# Altium footprint library inductors.PcbLib: 86 footprints (part 1 of 6)
Each footprint in its own frame and in the unit in brackets; x right, y up, seen from the top. Pads: shape width x height; smd on the part's side, far side on the other; paste and mask are expansions set on the pad; w line width, h text height; cw(c..) or ccw(c..) is an arc to the next point about the centre after c.
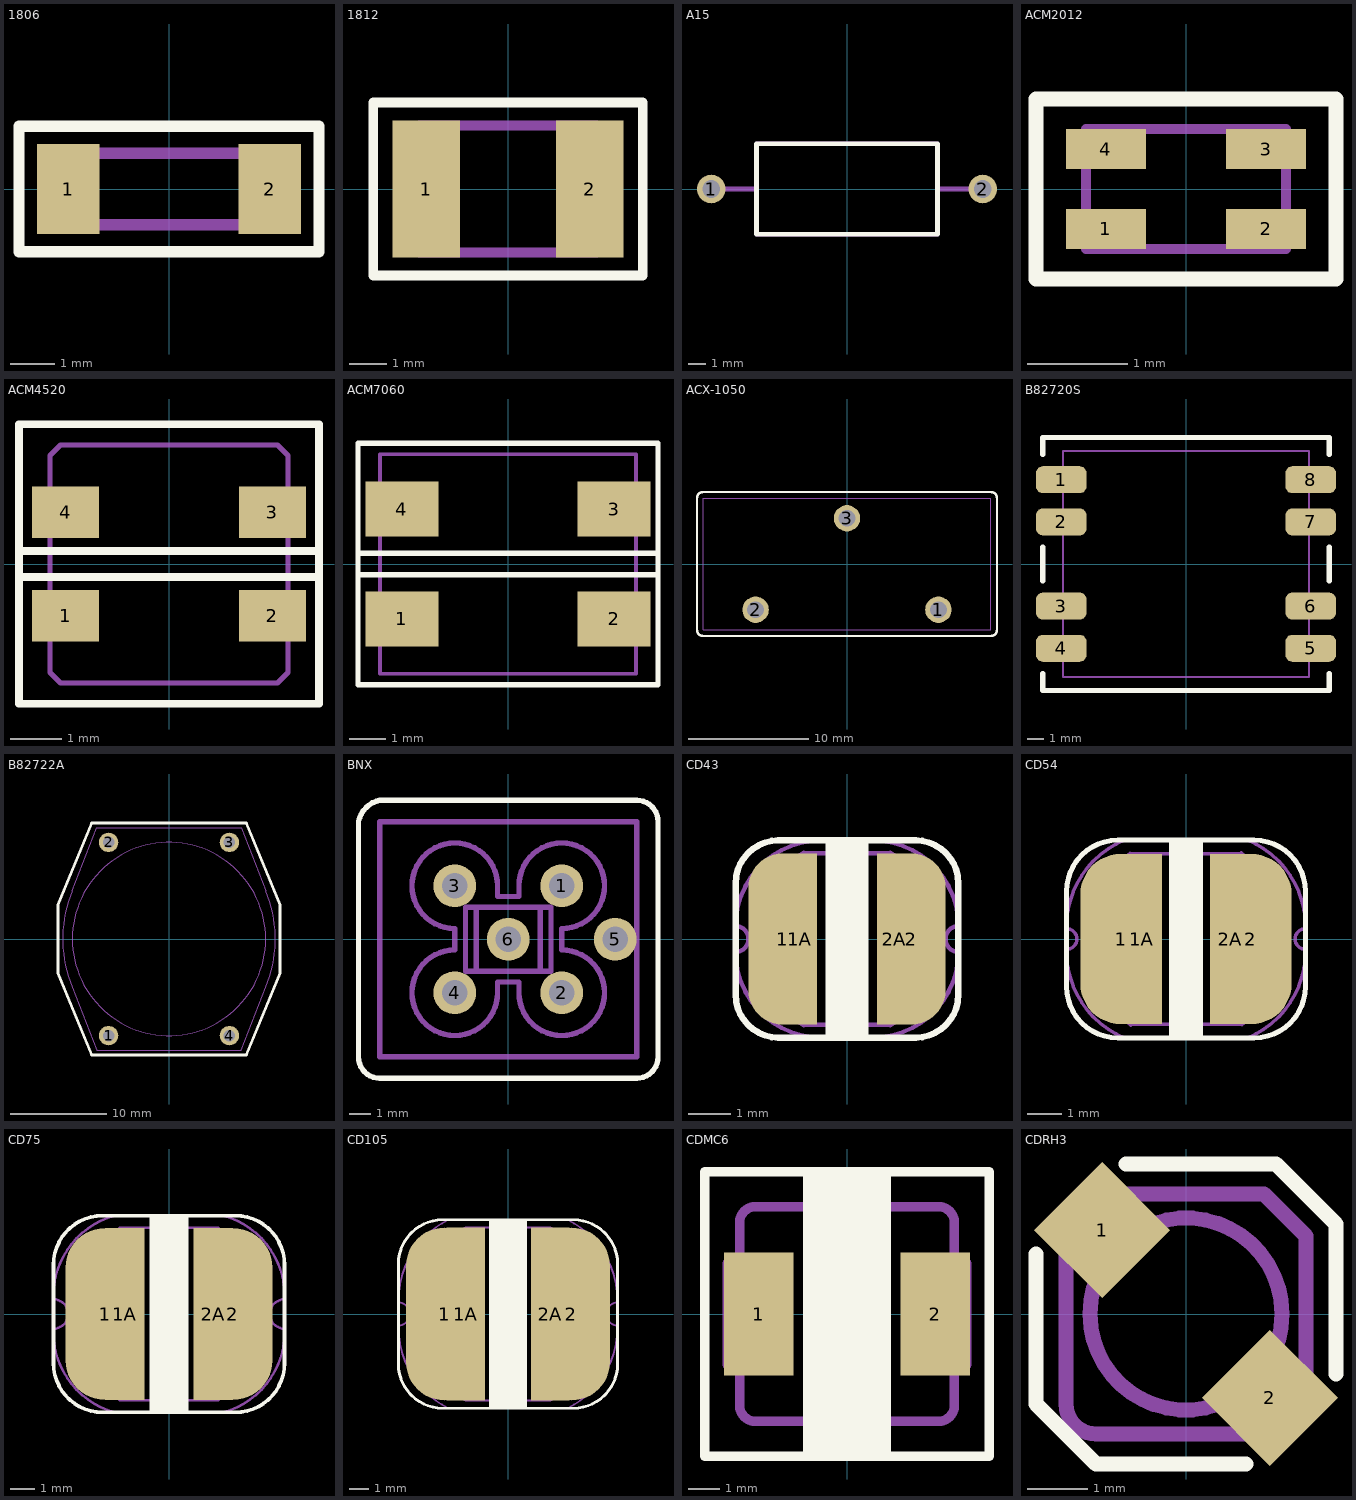
[diagram p0: the footprints below, top view; thin cyan lines are the x and y axes]

## 1806 [mm]
pads (2):
  rect 1.4x2 smd: 1(-2.25,0) 2(2.25,0)
Top Overlay:
  lines w0.25: -3.35,-1.4 -3.35,1.4 3.35,1.4 3.35,0.5 3.35,-1.4 2.45,-1.4 -3.35,-1.4
Mechanical 1:
  lines w0.25: -1.75,-0.8 -1.75,0.8 ; 1.75,-0.8 1.75,0.8 ; -2.25,-0.8 -2.25,0.8 2.25,0.8 2.25,-0.8 -2.25,-0.8

## 1812 [mil]
pads (2):
  rect 70x142 smd: 1(-85,0) 2(85,0)
Top Overlay:
  lines w10: -140,-90 -140,90 140,90 140,-90 -140,-90
Mechanical 1:
  lines w10: -92,-66 -92,66 92,66 92,-66 -92,-66

## A15 [mm]
pads (2):
  round 1.6 hole 1: 1(-7.62,0) 2(7.62,0)
Top Overlay:
  lines w0.254: -5.08,-2.54 -5.08,2.54 5.08,2.54 5.08,-2.54 -5.08,-2.54
Mechanical 1:
  lines w0.254: -7.62,0 -5.08,0 ; 5.08,0 7.62,0 ; -5.08,-2.54 -5.08,2.54 5.08,2.54 5.08,-2.54 -5.08,-2.54

## ACM2012 [mm]
height 1.2
pads (4):
  rect 0.8x0.4 smd: 1(-0.8,-0.4) 2(0.8,-0.4) 3(0.8,0.4) 4(-0.8,0.4)
Top Overlay:
  lines w0.15: -1.5,-0.9 -1.5,0.9 1.5,0.9 1.5,-0.9 -1.5,-0.9
Mechanical 1:
  lines w0.1: -1,-0.6 1,-0.6 1,0.6 -1,0.6 -1,-0.6
3D body: height 1.2, standoff 0.1, extent -1,-0.6 1,0.6

## ACM4520 [mm]
height 2
pads (4):
  rect 1.3x1 smd: 1(-2,-1) 2(2,-1) 3(2,1) 4(-2,1)
Top Overlay:
  lines w0.15: -2.9,-0.25 2.9,-0.25 ; -2.9,0.25 2.9,0.25 ; -2.9,-2.7 -2.9,2.7 2.9,2.7 2.9,-2.7 -2.9,-2.7
Mechanical 1:
  lines w0.1: -2.3,-2.1 -2.3,2.1 -2.1,2.3 2.1,2.3 2.3,2.1 2.3,-2.1 2.1,-2.3 -2.1,-2.3 -2.3,-2.1
3D body: height 1.9, standoff 0.2, extent -2.304,-2.304 2.304,2.304
3D body: height 2, standoff 0, extent -2.4,0.6 -1.6,1.4
3D body: height 2, standoff 0, extent -2.4,-1.4 -1.6,-0.6
3D body: height 2, standoff 0, extent 1.6,0.6 2.4,1.4
3D body: height 2, standoff 0, extent 1.6,-1.4 2.4,-0.6

## ACM7060 [mm]
height 3.5
pads (4):
  rect 2x1.5 smd: 1(-2.9,-1.5) 2(2.9,-1.5) 3(2.9,1.5) 4(-2.9,1.5)
Top Overlay:
  lines w0.15: -4.1,-0.3 4.1,-0.3 ; -4.1,0.3 4.1,0.3 ; -4.1,-3.3 4.1,-3.3 4.1,3.3 -4.1,3.3 -4.1,-3.3
Mechanical 1:
  lines w0.1: -3.5,-3 -3.5,3 3.5,3 3.5,-3 -3.5,-3
3D body: height 1.6, standoff 0, extent -3.6,0.7 -2.6,2.2
3D body: height 2.55, standoff 0.05, extent -3.5,-3 3.5,3
3D body: height 1.6, standoff 0, extent -3.6,-2.3 -2.6,-0.8
3D body: height 1.6, standoff 0, extent 2.6,0.8 3.6,2.3
3D body: height 1.6, standoff 0, extent 2.6,-2.2 3.6,-0.7
3D body: height 2.21, standoff 0.19, extent -3,-2.509 3,2.509

## ACX-1050 [mm] "Current transformer"
height 24
pads (3):
  round 2.2 hole 1.4: 1(7.62,-3.81) 2(-7.62,-3.81) 3(0,3.81)
Top Overlay:
  lines w0.2: -12.5,-5.5 ccw(c-12,-5.5) -12,-6 12,-6 ccw(c12,-5.5) 12.5,-5.5 12.5,5.5 ccw(c12,5.5) 12,6 -12,6 ccw(c-12,5.5) -12.5,5.5 -12.5,-5.5
Mechanical 1:
  lines w0.1: -12,-5.5 -12,5.5 12,5.5 12,-5.5 -12,-5.5
3D body: height 24, standoff 0, extent -11.993,-5.5 11.993,5.5
3D body: height 12, standoff 0, extent -11.993,-5.5 12,5.5
3D body: height 5, standoff -5, extent 7.12,-4.309 8.116,-3.311
3D body: height 5, standoff -5, extent -0.5,3.311 0.496,4.309
3D body: height 5, standoff -5, extent -8.12,-4.309 -7.124,-3.311

## B82720S [mm]
height 11
pads (8):
  rrect50% 3x1.6 smd: 1(-7.4,5) 2(-7.4,2.5) 3(-7.4,-2.5) 4(-7.4,-5) 5(7.4,-5) 6(7.4,-2.5) 7(7.4,2.5) 8(7.4,5)
Top Overlay:
  lines w0.3: -8.5,-6.5 -8.5,-7.5 8.5,-7.5 8.5,-6.5 ; -8.5,-1 -8.5,1 ; -8.5,6.5 -8.5,7.5 8.5,7.5 8.5,6.5 ; 8.5,-1 8.5,1
Mechanical 1:
  lines w0.1: -7.3,-5.3 -8.3,-5.3 -8.3,-4.7 -7.3,-4.7 ; -7.3,-2.8 -8.3,-2.8 -8.3,-2.2 -7.3,-2.2 ; -7.3,2.2 -8.3,2.2 -8.3,2.8 -7.3,2.8 ; -7.3,4.7 -8.3,4.7 -8.3,5.3 -7.3,5.3 ; 7.3,-5.3 8.3,-5.3 8.3,-4.7 7.3,-4.7 ; 7.3,-2.8 8.3,-2.8 8.3,-2.2 7.3,-2.2 ; 7.3,2.2 8.3,2.2 8.3,2.8 7.3,2.8 ; 7.3,4.7 8.3,4.7 8.3,5.3 7.3,5.3 ; -7.3,-6.7 -7.3,6.7 7.3,6.7 7.3,-6.7 -7.3,-6.7
3D body: height 10.5, standoff 0.7, extent -7.3,-6.7 7.3,6.7
3D body: height 1.1, standoff 0, extent -8.5,-2.75 -6,-2.25
3D body: height 1.1, standoff 0, extent -8.5,4.75 -6,5.25
3D body: height 1.1, standoff 0, extent -8.5,2.25 -6,2.75
3D body: height 1.1, standoff 0, extent -8.5,-5.25 -6,-4.75
3D body: height 1.1, standoff 0, extent 6,4.75 8.5,5.25
3D body: height 1.1, standoff 0, extent 6,2.25 8.5,2.75
3D body: height 1.1, standoff 0, extent 6,-2.75 8.5,-2.25
3D body: height 1.1, standoff 0, extent 6,-5.25 8.5,-4.75

## B82722A [mm]
height 13.3
pads (4):
  round 2 hole 1.2: 1(-6.25,-10) 2(-6.25,10) 3(6.25,10) 4(6.25,-10)
Top Overlay:
  lines w0.3: -11.5,-3.5 -11.5,3.5 -8,12 8,12 11.5,3.5 11.5,-3.5 8,-12 -8,-12 -11.5,-3.5
Mechanical 1:
  circle w0.1: c0,0 r10
  lines w0.1: -10.018,-5.009 cw(c2.26,0) -10.018,5.009 ; -10,-5 -7.5,-11.5 7.5,-11.5 10,-5 ; -10,5 -7.5,11.5 7.5,11.5 10,5 ; 10.018,-5.009 ccw(c-2.26,0) 10.018,5.009
3D body: height 12, standoff 0.1, extent -11.157,-11.5 11.157,11.5

## BNX [mm]
pads (6):
  round 2 hole 1.2: 1(2.5,2.5) 2(2.5,-2.5) 3(-2.5,2.5) 4(-2.5,-2.5) 5(5,0) 6(0,0)
Top Overlay:
  lines w0.25: -7,-5.5 ccw(c-6,-5.5) -6,-6.5 6,-6.5 ccw(c6,-5.5) 7,-5.5 7,5.5 ccw(c6,5.5) 6,6.5 -6,6.5 ccw(c-5.75,5.25) -7,5.5 -7,-5.5
Mechanical 1:
  lines w0.25: -1.5,-1.5 -1.5,1.5 ; 1.5,-1.5 1.5,1.5 ; -6,-5.5 6,-5.5 6,5.5 -6,5.5 -6,-5.5 ; -2.5,-0.5 ccw(c-2.5,-2.5) -0.5,-2.5 -0.5,-2 0.5,-2 0.5,-2.5 ccw(c2.5,-2.5) 2.5,-0.5 2.5,0.5 ccw(c2.5,2.5) 0.5,2.5 0.5,2 -0.5,2 -0.5,2.5 ccw(c-2.5,2.5) -2.5,0.5 -2.5,-0.5 ; -2,-1.5 2,-1.5 2,1.5 -2,1.5 -2,-1.5
3D body: height 8, standoff 0.1, extent -6,-5.5 6,5.5

## CD43 [mm] "Unshielded d4.5mm"
height 3
pads (4):
  oval 1.6x4 smd: 1(-1.5,0) 2(1.5,0)
  rect 0.8x4 smd: 1A(-1.1,0) 2A(1.1,0)
Top Overlay:
  rectangle: -0.5,-2.3 0.5,2.3
  lines w0.15: -2.6,-1.3 ccw(c-1.6,-1.3) -1.6,-2.3 1.6,-2.3 ccw(c1.6,-1.3) 2.6,-1.3 2.6,1.3 ccw(c1.6,1.3) 1.6,2.3 -1.6,2.3 ccw(c-1.6,1.3) -2.6,1.3 -2.6,-1.3
Mechanical 1:
  lines w0.1: -2.236,0.248 cw(c0,0) -1.006,2.012 ; -2.236,0.25 -2,0.25 cw(c-2,0) -2,-0.25 -2.236,-0.25 ccw(c0,0) -1.006,-2.012 ; -1,-2 1,-2 ; -1,2 1,2 ; 1.006,-2.012 ccw(c0,0) 2.236,-0.248 ; 1.006,2.012 cw(c0,0) 2.236,0.25 2,0.25 ccw(c2,0) 2,-0.25 2.236,-0.25
Mechanical 5:
  lines w0.1: -2.6,-0.3 ccw(c-0.6,-0.3) -0.6,-2.3 0.6,-2.3 ccw(c0.6,-0.3) 2.6,-0.3 cw(c2.6,0) 2.6,0.3 ccw(c0.6,0.3) 0.6,2.3 -0.6,2.3 ccw(c-0.6,0.3) -2.6,0.3 cw(c-2.6,0) -2.6,-0.3
  text ".Designator" at -2,-0.8 h1.5
Mechanical 6:
  lines w0.1: -2.6,-0.3 ccw(c-2.6,0) -2.6,0.3 cw(c-0.6,0.3) -0.6,2.3 0.6,2.3 cw(c0.6,0.3) 2.6,0.3 ccw(c2.6,0) 2.6,-0.3 cw(c0.6,-0.3) 0.6,-2.3 -0.6,-2.3 cw(c-0.6,-0.3) -2.6,-0.3
  text ".Comment" at -2,-0.8 h1.5
3D body: height 2.5, standoff 0.5, extent -1.697,-1.699 1.701,1.7
3D body: height 3.2, standoff 2.5, extent -2.25,-2.008 2.251,2.009
3D body: height 0.8, standoff 0.1, extent -2.25,-2.008 2.251,2.008

## CD54 [mm] "Unshielded d5.8mm"
height 4.5
pads (4):
  oval 2.4x5 smd: 1(-1.9,0) 2(1.9,0)
  rect 1.2x5 smd: 1A(-1.3,0) 2A(1.3,0)
Top Overlay:
  rectangle: -0.5,-2.9 0.5,2.9
  lines w0.15: -3.5,-1.4 ccw(c-2,-1.4) -2,-2.9 2,-2.9 ccw(c2,-1.4) 3.5,-1.4 3.5,1.4 ccw(c2,1.4) 2,2.9 -2,2.9 ccw(c-2,1.4) -3.5,1.4 -3.5,-1.4
Mechanical 1:
  lines w0.1: -2.989,-0.255 ccw(c0,0) -1.617,-2.527 ; -2.988,0.265 cw(c0,0) -1.642,2.511 ; -2.936,-0.25 -2.7,-0.25 ccw(c-2.7,0) -2.7,0.25 -2.936,0.25 ; -1.6,-2.5 1.6,-2.5 ; -1.6,2.5 1.6,2.5 ; 1.617,2.527 cw(c0,0) 2.989,0.255 ; 1.642,-2.511 ccw(c0,0) 2.988,-0.265 ; 2.936,-0.25 2.7,-0.25 cw(c2.7,0) 2.7,0.25 2.936,0.25
Mechanical 5:
  lines w0.1: -3.5,-0.3 ccw(c-0.778,-0.376) -1.8,-2.9 1.8,-2.9 ccw(c0.778,-0.376) 3.5,-0.3 cw(c3.5,0) 3.5,0.3 ccw(c0.778,0.376) 1.8,2.9 -1.8,2.9 ccw(c-0.778,0.376) -3.5,0.3 cw(c-3.5,0) -3.5,-0.3
  text ".Designator" at -2,-0.8 h1.5
Mechanical 6:
  lines w0.1: -3.5,-0.3 ccw(c-3.5,0) -3.5,0.3 cw(c-0.778,0.376) -1.8,2.9 1.8,2.9 cw(c0.778,0.376) 3.5,0.3 ccw(c3.5,0) 3.5,-0.3 cw(c0.778,-0.376) 1.8,-2.9 -1.8,-2.9 cw(c-0.778,-0.376) -3.5,-0.3
  text ".Comment" at -2,-0.8 h1.5
3D body: height 4.5, standoff 3.5, extent -3.012,-2.5 3.012,2.5
3D body: height 4.3, standoff 0.3, extent -2.198,-2.199 2.2,2.199
3D body: height 1, standoff 0.1, extent -3.012,-2.5 3.012,2.5

## CD75 [mm] "Unshielded d7.8mm"
height 5
pads (4):
  oval 3.2x7 smd paste-2: 1(-2.6,0) 2(2.6,0)
  rect 1.6x7 smd paste-2: 1A(-1.8,0) 2A(1.8,0)
Top Overlay:
  rectangle: -0.8,-4 0.8,4
  lines w0.15: -4.7,-2 ccw(c-2.7,-2) -2.7,-4 2.7,-4 ccw(c2.7,-2) 4.7,-2 4.7,2 ccw(c2.7,2) 2.7,4 -2.7,4 ccw(c-2.7,2) -4.7,2 -4.7,-2
Top Paste:
  region: 3.75,-1.95 2.9,-2.8 1.8,-2.8 1.45,-2.45 1.45,-0.65 1.8,-0.3 3.4,-0.3 3.75,-0.65
  region: -3.75,-1.95 -2.9,-2.8 -1.8,-2.8 -1.45,-2.45 -1.45,-0.65 -1.8,-0.3 -3.4,-0.3 -3.75,-0.65
  region: 3.75,1.95 2.9,2.8 1.8,2.8 1.45,2.45 1.45,0.65 1.8,0.3 3.4,0.3 3.75,0.65
  region: -3.75,1.95 -2.9,2.8 -1.8,2.8 -1.45,2.45 -1.45,0.65 -1.8,0.3 -3.4,0.3 -3.75,0.65
Mechanical 1:
  lines w0.1: -4,-0.3 ccw(c-0.183,-0.139) -2,-3.5 2,-3.5 ccw(c0.183,-0.139) 4,-0.3 3.6,-0.3 cw(c3.6,0) 3.6,0.3 4,0.3 ccw(c0.183,0.139) 2,3.5 -2,3.5 ccw(c-0.183,0.139) -4,0.3 -3.6,0.3 cw(c-3.6,0) -3.6,-0.3 -4,-0.3
Mechanical 5:
  lines w0.1: -4.7,-0.6 ccw(c-4.7,0) -4.7,0.6 cw(c-1.325,0.737) -2.2,4 2.2,4 cw(c1.325,0.737) 4.7,0.6 ccw(c4.7,0) 4.7,-0.6 cw(c1.325,-0.737) 2.2,-4 -2.2,-4 cw(c-1.325,-0.737) -4.7,-0.6
  text ".Designator" at -2,-0.8 h1.5
Mechanical 6:
  lines w0.1: -4.7,-0.6 ccw(c-1.325,-0.737) -2.2,-4 2.2,-4 ccw(c1.325,-0.737) 4.7,-0.6 cw(c4.7,0) 4.7,0.6 ccw(c1.325,0.737) 2.2,4 -2.2,4 ccw(c-1.325,0.737) -4.7,0.6 cw(c-4.7,0) -4.7,-0.6
  text ".Comment" at -2,-0.8 h1.5
3D body: height 1.2, standoff 0.1, extent -4.005,-3.508 4.001,3.503
3D body: height 4.8, standoff 0.3, extent -3.196,-3.199 3.2,3.199
3D body: height 5, standoff 3.8, extent -4.004,-3.507 4.002,3.504

## CD105 [mm] "Unshielded d10mm"
height 5.4
pads (4):
  oval 4x9 smd paste-3: 1(-3.3,0) 2(3.3,0)
  rect 2x9 smd paste-3: 1A(-2.2,0) 2A(2.2,0)
Top Overlay:
  rectangle: -1,-4.9 1,4.9
  lines w0.15: -5.7,-2.6 ccw(c-3.4,-2.6) -3.4,-4.9 3.4,-4.9 ccw(c3.4,-2.6) 5.7,-2.6 5.7,2.6 ccw(c3.4,2.6) 3.4,4.9 -3.4,4.9 ccw(c-3.4,2.6) -5.7,2.6 -5.7,-2.6
Top Paste:
  region: -1.5,-0.8 -1.5,-1.3 -2,-1.8 -4.5,-1.8 -5,-1.3 -5,-0.8 -4.5,-0.3 -2,-0.3
  region: -1.5,1.3 -1.5,0.8 -2,0.3 -4.5,0.3 -5,0.8 -5,1.3 -4.5,1.8 -2,1.8
  region: -1.5,-2.9 -1.5,-3.4 -2,-3.9 -3.8,-3.9 -4.3,-3.4 -4.3,-2.9 -3.8,-2.4 -2,-2.4
  region: -1.5,3.4 -1.5,2.9 -2,2.4 -3.8,2.4 -4.3,2.9 -4.3,3.4 -3.8,3.9 -2,3.9
  region: 1.5,-3.4 1.5,-2.9 2,-2.4 3.8,-2.4 4.3,-2.9 4.3,-3.4 3.8,-3.9 2,-3.9
  region: 1.5,2.9 1.5,3.4 2,3.9 3.8,3.9 4.3,3.4 4.3,2.9 3.8,2.4 2,2.4
  region: 1.5,-1.3 1.5,-0.8 2,-0.3 4.5,-0.3 5,-0.8 5,-1.3 4.5,-1.8 2,-1.8
  region: 1.5,0.8 1.5,1.3 2,1.8 4.5,1.8 5,1.3 5,0.8 4.5,0.3 2,0.3
Mechanical 1:
  lines w0.1: -5,-0.3 ccw(c-0.225,-0.15) -2.2,-4.5 2.2,-4.5 ccw(c0.225,-0.15) 5,-0.3 4.6,-0.3 cw(c4.6,0) 4.6,0.3 5,0.3 ccw(c0.225,0.15) 2.2,4.5 -2.2,4.5 ccw(c-0.225,0.15) -5,0.3 -4.6,0.3 cw(c-4.6,0) -4.6,-0.3 -5,-0.3
Mechanical 5:
  lines w0.1: -5.7,-0.6 ccw(c-5.7,0) -5.7,0.6 cw(c-0.941,0.658) -3.1,4.9 3.1,4.9 cw(c0.941,0.658) 5.7,0.6 ccw(c5.7,0) 5.7,-0.6 cw(c0.941,-0.658) 3.1,-4.9 -3.1,-4.9 cw(c-0.941,-0.658) -5.7,-0.6
  text ".Designator" at -2,-0.8 h1.5
Mechanical 6:
  lines w0.1: -5.7,-0.6 ccw(c-0.941,-0.658) -3.1,-4.9 3.1,-4.9 ccw(c0.941,-0.658) 5.7,-0.6 cw(c5.7,0) 5.7,0.6 ccw(c0.941,0.658) 3.1,4.9 -3.1,4.9 ccw(c-0.941,0.658) -5.7,0.6 cw(c-5.7,0) -5.7,-0.6
  text ".Comment" at -2,-0.8 h1.5
3D body: height 5.4, standoff 4.2, extent -4.991,-4.5 5,4.5
3D body: height 5.3, standoff 0.3, extent -3.996,-3.999 4,3.999
3D body: height 1.2, standoff 0.1, extent -4.986,-4.5 5.005,4.501

## CDMC6 [mm]
pads (2):
  rect 2.2x3.9 smd: 1(-2.8,0) 2(2.8,0)
Top Overlay:
  lines w0.3: -1.25,-4.5 -1.25,4.5 ; -1,-4.5 -1,4.5 ; -0.75,-4.5 -0.75,4.5 ; -0.5,-4.5 -0.5,4.5 ; -0.25,-4.5 -0.25,4.5 ; 0,-4.5 0,4.5 ; 0.25,-4.5 0.25,4.5 ; 0.5,-4.5 0.5,4.5 ; 0.75,-4.5 0.75,4.5 ; 1,-4.5 1,4.5 ; 1.25,-4.5 1.25,4.5 ; -4.5,-4.5 4.5,-4.5 4.5,4.5 -4.5,4.5 -4.5,-4.5
Mechanical 1:
  lines w0.3: -3.4,-1.6 -3.8,-1.6 -3.8,1.6 -3.4,1.6 ; 3.4,-1.6 3.8,-1.6 3.8,1.6 3.4,1.6 ; -3.4,-2.9 ccw(c-2.9,-2.9) -2.9,-3.4 2.9,-3.4 ccw(c2.9,-2.9) 3.4,-2.9 3.4,2.9 ccw(c2.9,2.9) 2.9,3.4 -2.9,3.4 ccw(c-2.9,2.9) -3.4,2.9 -3.4,-2.9

## CDRH3 [mm]
pads (2):
  rect 1.6x1.6 smd rot 45: 1(-1.4,1.4) 2(1.4,-1.4)
Top Overlay:
  lines w0.25: -2.5,1 -2.5,-1.5 -1.5,-2.5 1,-2.5 ; -1,2.5 1.5,2.5 2.5,1.5 2.5,-1
Mechanical 1:
  circle w0.25: c0,0 r1.6
  lines w0.25: -2,-1.5 ccw(c-1.5,-1.5) -1.5,-2 1.2,-2 2,-1.2 2,1.3 1.3,2 -1.2,2 -2,1.2 -2,-1.5